# EAGLE library part ARDUINO_NANO (library Arduino)
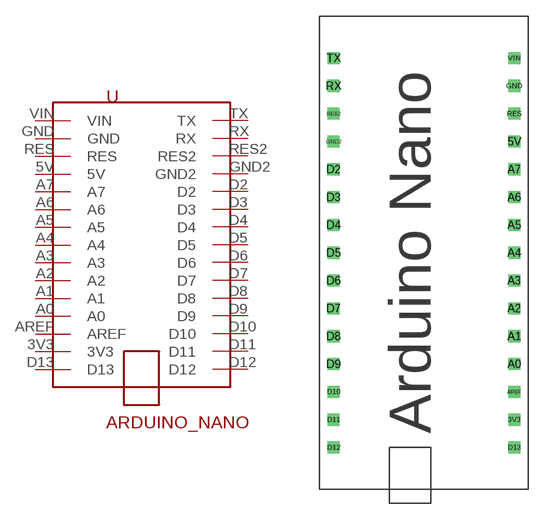
[diagram p0: symbol with the pads of ARDUIN_NANO; footprint ARDUIN_NANO]

Designator prefix -

## ARDUINO_NANO  [ARDUIN_NANO]
3V3  3V3
5V  5V
A0  A0
A1  A1
A2  A2
A3  A3
A4  A4
A5  A5
A6  A6
A7  A7
AREF  AREF
D2  D2
D3  D3
D4  D4
D5  D5
D6  D6
D7  D7
D8  D8
D9  D9
D10  D10
D11  D11
D12  D12
D13  D13
GND  GND
GND2  GND2
RES  RES
RES2  RES2
RX  RX
TX  TX
VIN  VIN

## Footprint ARDUIN_NANO (pad centres in mm)
drill 0.6 square: 3V3 3.81,8.89; 5V 3.81,34.29; A0 3.81,13.97; A1 3.81,16.51; A2 3.81,19.05; A3 3.81,21.59; A4 3.81,24.13; A5 3.81,26.67; A6 3.81,29.21; A7 3.81,31.75; AREF 3.81,11.43; D2 -12.7,31.75; D3 -12.7,29.21; D4 -12.7,26.67; D5 -12.7,24.13; D6 -12.7,21.59; D7 -12.7,19.05; D8 -12.7,16.51; D9 -12.7,13.97; D10 -12.7,11.43; D11 -12.7,8.89; D12 -12.7,6.35; D13 3.81,6.35; GND 3.81,39.37; GND2 -12.7,34.29; RES 3.81,36.83; RES2 -12.7,36.83; RX -12.7,39.37; TX -12.7,41.91; VIN 3.81,41.91